# Altium schematic symbol library CR6842_Mosfet_Driver.SchLib: 1 symbol
Pins are listed as number, name and electrical type; pins without a type are passive.

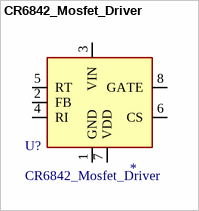
[diagram p0: symbol CR6842_Mosfet_Driver]

## CR6842_Mosfet_Driver
designator U?
SOP-8 AC-DC Controllers & Regulators ROHS CR6842_Mosfet_Driver; LCSC: *
footprint CR6842_Mosfet_Driver
pins: 1 GND, 2 FB, 3 VIN, 4 RI, 5 RT, 6 CS, 7 VDD, 8 GATE